# Altium footprint library MDSM-4R-12-18.PcbLib: 1 footprints
Each footprint in its own frame and in the unit in brackets; x right, y up, seen from the top. Pads: shape width x height; smd on the part's side, far side on the other; paste and mask are expansions set on the pad; w line width, h text height; cw(c..) or ccw(c..) is an arc to the next point about the centre after c.
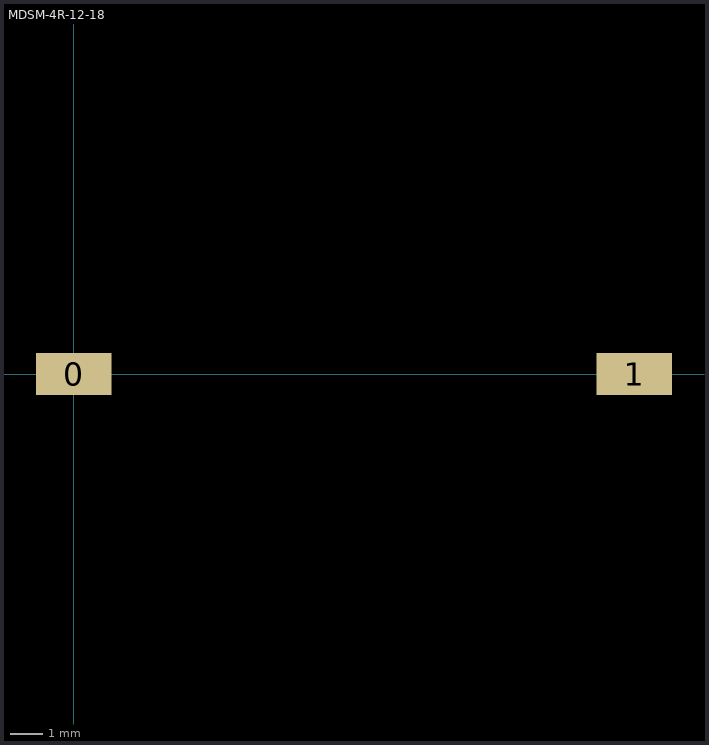
[diagram p0: the footprint, top view; thin cyan lines are the x and y axes]

## MDSM-4R-12-18 [mm] "Reed Switch"
height 2.84
pads (2):
  rect 2.34x1.3 smd: 0(0,0) 1(17.3,0)
3D body: height 2.84, standoff 0, extent -1.272,-0.752 18.572,0.752